# Altium schematic symbol library SCH - BATTERY MANAGEMENT - TP4333 8SOIC.SchLib: 1 symbol
Pins are listed as number, name and electrical type; pins without a type are passive.

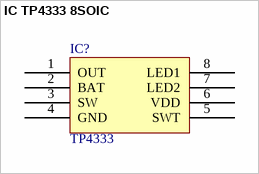
[diagram p0: symbol IC TP4333 8SOIC]

## IC TP4333 8SOIC
designator IC?, comment TP4333
1A Synchronous mobile power solution 8-SOIC
footprint ALPHAOMEGA SO8 SOP-8L (SOIC, 8-Leads, Body 4.90x3.90mm, Pitch 1.27mm, IPC Medium Density)
pins: 1 OUT, 2 BAT, 3 SW, 4 GND, 5 SWT, 6 VDD, 7 LED2, 8 LED1